# Altium schematic symbol library KNR_Kurs.SchLib: 163 symbols (part 1 of 2)
Pins are listed as number, name and electrical type; pins without a type are passive.

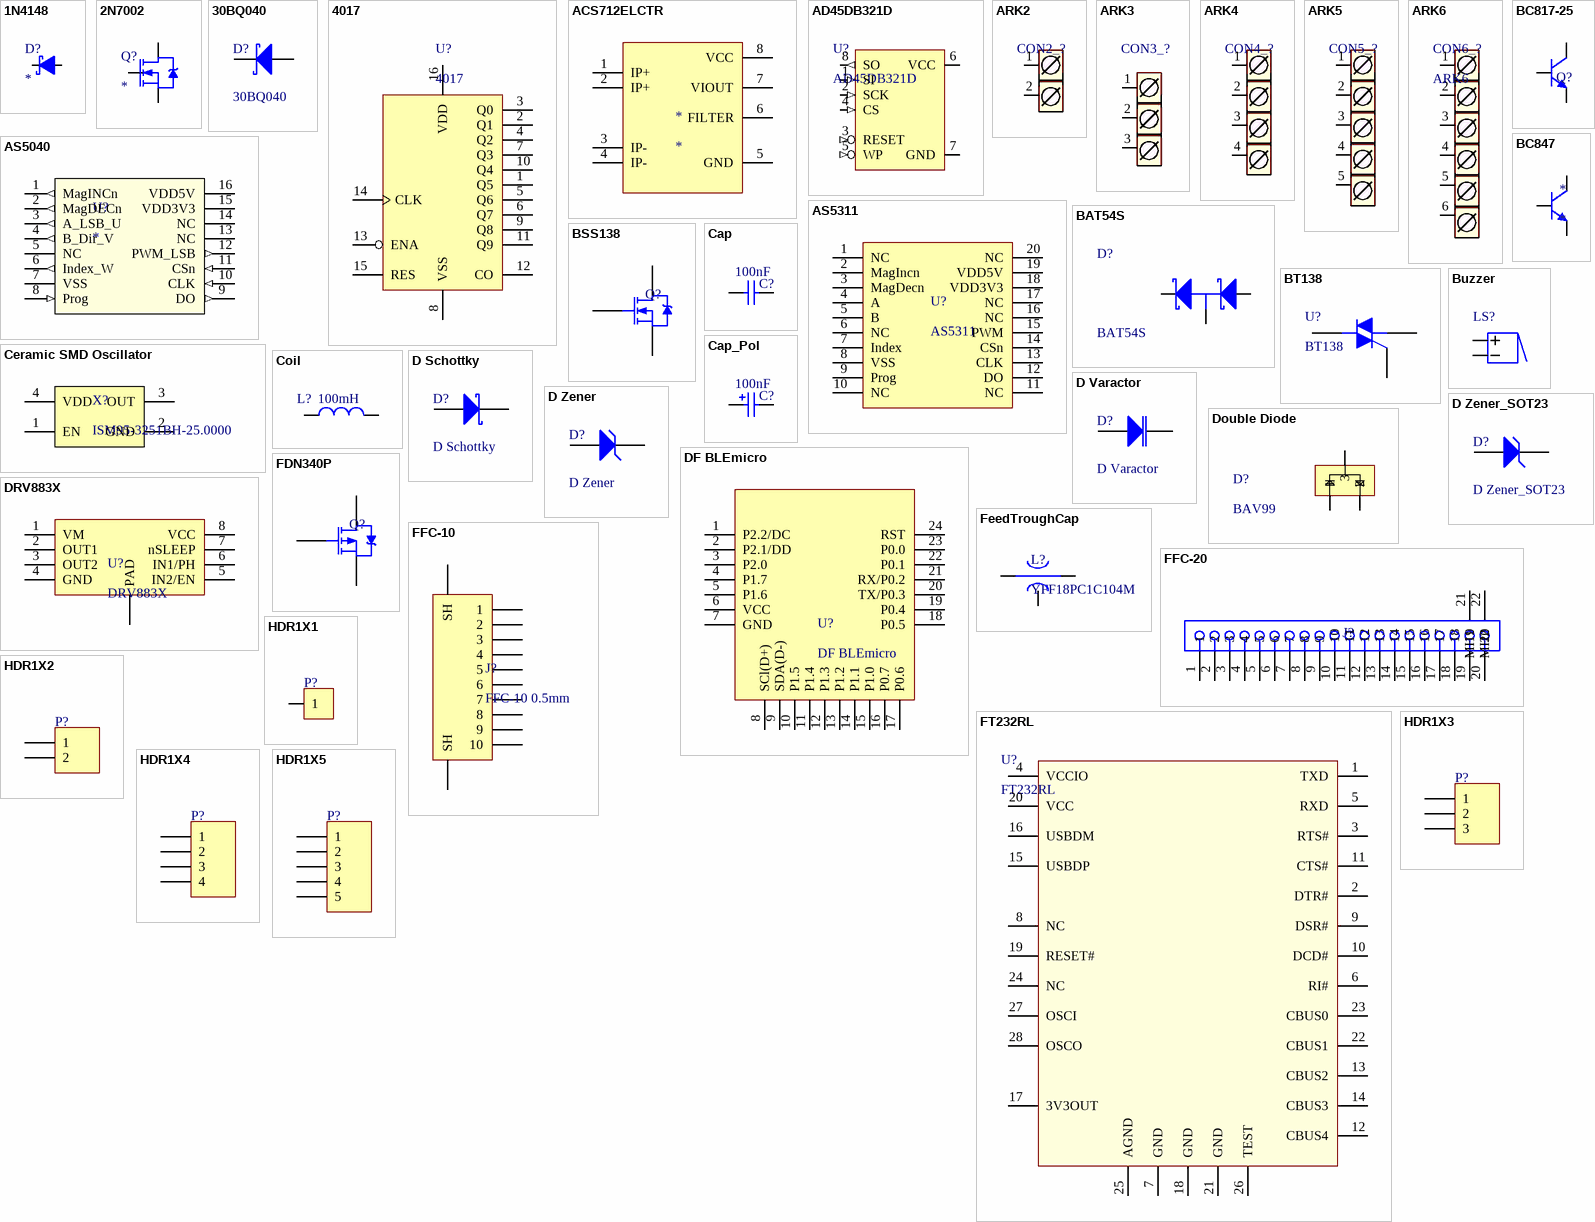
[diagram p0: symbols 1N4148 to HDR1X5]

## 1N4148
designator D?
footprint minimelf
pins: 1 A, 2 K

## 2N7002
designator Q?
footprint SOT23
pins: 1 G, 2 S, 3 D

## 30BQ040
designator D?
Schottky Rectifier; Published: 8-Jun-2000; LatestRevisionDate: 17-Jul-2002; LatestRevisionNote: Re-released for DXP Platform.; DatasheetDocument: PD-2.439; PackageReference: SMC; Publisher: Altium Limited; Code_JEDEC: DO-214-AB; ComponentLink1Description: Manufacturer Link; ComponentLink1URL: http://www.irf.com/; ComponentLink2Description: Datasheet; ComponentLink2URL: http://www.irf.com/product-info/datasheets/data/30bq040.pdf
footprint SMC (DO-214-AB/SMC; 2 C-Bend Leads; Body 7.9 x 5.9 mm, inc. leads (LxW))
pins: 1 A, 2 K

## 4017
designator U?
5-stage Johnson counter
footprint DIP16
pins: 1 Q5, 2 Q1, 3 Q0, 4 Q2, 5 Q6, 6 Q7, 7 Q3, 8 VSS, 9 Q8, 10 Q4, 11 Q9, 12 CO, 13 ENA, 14 CLK, 15 RES, 16 VDD

## ACS712ELCTR
designator *
footprint SOIC127P600X175-8N (SOIC, 8-Leads, Body 4,90x3,90mm, Pitch 1,27mm, IPC Medium Density)
pins: 1 IP+, 2 IP+, 3 IP-, 4 IP-, 5 GND, 6 FILTER, 7 VIOUT, 8 VCC

## AD45DB321D
designator U?
footprint SOIC8S2
pins: 1 SI (in), 2 SCK (in), 3 RESET (in), 4 CS (in), 5 WP (in), 6 VCC (power), 7 GND (power), 8 SO (out)

## ARK2
designator CON2_?  (value not drawn)
Złącze śrubowe 2 piny
footprint ARK2
pins: 1, 2

## ARK3
designator CON3_?  (value not drawn)
Złącze śrubowe 3 piny
footprint ARK3
pins: 1, 2, 3

## ARK4
designator CON4_?  (value not drawn)
Złącze śrubowe 4 piny
footprint ARK4
pins: 1, 2, 3, 4

## ARK5
designator CON5_?  (value not drawn)
Złącze śrubowe 5 pinów
footprint ARK5
pins: 1, 2, 3, 4, 5

## ARK6
designator CON6_?
Złącze śrubowe 6 pinów
footprint ARK6
pins: 1, 2, 3, 4, 5, 6

## AS5040
designator U?
footprint SSOP16 (SSOP; 16 Leads; Body Width 5.3 mm; Pitch 0.65 mm)
pins: 1 MagINCn (out), 2 MagDECn (out), 3 A_LSB_U (out), 4 B_Dir_V (out), 5 NC, 6 Index_W (out), 7 VSS (power), 8 Prog (in), 9 DO (out), 10 CLK (in), 11 CSn (in), 12 PWM_LSB (out), 13 NC, 14 NC, 15 VDD3V3 (power), 16 VDD5V (power)

## AS5311
designator U?
footprint TSOP20 (TSOP, 12 Leads, Body XxXmm, Pitch 0,65mm, Thermal Pad 0,00x0,00mm, IPC Medium Density)
pins: 1 NC, 2 MagIncn, 3 MagDecn, 4 A, 5 B, 6 NC, 7 Index, 8 VSS, 9 Prog, 10 NC, 11 NC, 12 DO, 13 CLK, 14 CSn, 15 PWM, 16 NC, 17 NC, 18 VDD3V3, 19 VDD5V, 20 NC

## BAT54S
designator D?
Schottky Barrier Double Diode; Published: 17-Sep-2003; LatestRevisionDate: 12-Dec-2006; LatestRevisionNote: IPC-7351 Footprint Added.; DatasheetVersion: 4-Mar-2002; PackageVersion: May-1999; PackageReference: SOT23; Publisher: Altium Limited; PackageDescription: 3-Pin SOT-23 Package 0.95 mm Pitch, 2.3 mm Lead Span; ComponentLink1Description: Manufacturer Link; ComponentLink1URL: http://www.semiconductors.philips.com/; ComponentLink2Description: Datasheet; ComponentLink2URL: http://www.semiconductors.philips.com/acrobat/datasheets/BAT54_SERIES_4.pdf
footprint SOT23_N
pins: 1 A, 2 K, 3 C

## BC817-25
designator Q?  (value not drawn)
NPN General-purpose Transistor; Published: 17-Sep-2003; LatestRevisionDate: 12-Dec-2006; LatestRevisionNote: IPC-7351 Footprint Added.; DatasheetVersion: Jun-1999; PackageVersion: May-1999; PackageReference: SOT23; Publisher: Altium Limited; PackageDescription: 3-Pin SOT-23 Package 0.95 mm Pitch, 2.3 mm Lead Span; ComponentLink1Description: Manufacturer Link; ComponentLink1URL: http://www.semiconductors.philips.com/; ComponentLink2Description: Datasheet; ComponentLink2URL: http://www.semiconductors.philips.com/acrobat/datasheets/BC817_BC817W_BC337_5.pdf
footprint SOT23_N
pins: 1 B, 2 E, 3 C

## BC847
designator *
footprint DFN65P100X40-3N (DFN, 3-Leads, Body 0,60x1,00mm, Pitch 0,65mm, IPC Medium Density)
pins: 1 B, 2 E, 3 C

## BSS138
designator Q?
footprint SuperSot-3
pins: 1 G, 2 S, 3 D

## BT138
designator U?
BT138, 600V Triac
footprint TO-220AB (TO, Thru-Hole, Vertical, Heatsink Mounted; 3 In-Line Leads; Pitch 2.54 mm)
pins: 1 M1, 2 M2, 3 G

## Buzzer
designator LS?  (value not drawn)
Magnetic Transducer Buzzer; Published: 24-Mar-1999; LatestRevisionDate: 17-Dec-2003; LatestRevisionNote: Schematic revised, PCB Footprint replaced.; DatasheetVersion: 17-Dec-2003; PackageReference: ABSM-1574; Publisher: Altium Limited; ComponentLink1Description: Manufacturer Link; ComponentLink1URL: http://www.megastar.com/linecard/buzzmode/index.php
footprint HCM1212X (Buzzer)
pins: 1, 2

## Cap
designator C?  value 100nF
Ceramic capacitor; Unit Price1: *; Unit Price2: *
footprint CAP_THT_5.0 (Kondensator ceramiczny z rozstawem wyprowadzeń 5mm)
footprint CAPC0402
footprint CAPC0603M (Chip Capacitor, 2-Leads, Body 1,60x0,80mm, IPC High Density)
footprint CAPC0805 (Chip Capacitor, 2-Leads, Body 2,00x1,25mm, IPC High Density)
footprint CAPC1206 (Chip Capacitor, 2-Leads, Body 3,20x1,60mm, IPC Medium Density)
footprint CAPC1210 (Chip Capacitor, 2-Leads, Body 3,20x2,50mm, IPC High Density)
pins: 1, 2

## Cap_Pol
designator C?, comment 100nF
Polar capacitor; Value: 100nF
footprint Con_SMD_4x5 (SMD electrolytic capacitor)
footprint Con_SMD_5x5.5 (SMD electrolytic capacitor)
footprint Con_SMD_6.3x5.5 (SMD electrolytical capacitor)
footprint Con_SMD_8x10_5 (Base 8,2mm height 10mm, 220uF, 35V AD6)
footprint Cap_THT_5x11
footprint Cap_THT_6x11
footprint Cap_THT_10x20
footprint B_CAP
pins: 1, 2
2 alternate drawings of the same symbol

## Ceramic SMD Oscillator
designator X?, comment ISM95-3251BH-25.0000
Generator: ceramiczny; 25MHz; SMD; 3,3V; ±50ppm; -40÷85°C
footprint ISM95 (Generator: ceramiczny; 25MHz; SMD; 3,3V; ±50ppm; -40÷85°C)
pins: 1 EN, 2 GND, 3 OUT, 4 VDD

## Coil
designator L?, comment 100mH
Coil for ADC filtering; Value: 100mH
footprint THT_AXIAL (General THT AXIAL element)
footprint 0603_IND
footprint 0805_IND ((2012 metric))
footprint 1206_IND (3216(metric))
pins: 1, 2

## D Schottky
designator D?
Schottky Diode; Published: 8-Jun-2000; LatestRevisionDate: 17-Jul-2002; LatestRevisionNote: Re-released for DXP Platform.; PackageReference: SMB; Publisher: Altium Limited; PackageDescription: DO-214-AA/SMB; 2 C-Bend Leads; Body 5.3 x 3.6 mm, inc. leads (LxW); Code_JEDEC: DO-214-AA
footprint SMB (DO-214-AA/SMB; 2 C-Bend Leads; Body 5.3 x 3.6 mm, inc. leads (LxW))
signal-integrity model D Schottky
footprint SMA (Molded Diode, 2-Leads, Body 4,3x2,7mm, IPC Medium Density)
footprint SOD323F (SODFL, 2-Leads, Body 1,25x2,50mm, IPC High Density)
pins: 1 A, 2 K

## D Varactor
designator D?
Variable Capacitance Diode; Note: Pin 2 is not connected and not drawn.; Published: 8-Jun-2000; LatestRevisionDate: 29-May-2009; LatestRevisionNote: IPC-7351 Footprint Added.; DatasheetVersion: Jan-1998; PackageVersion: 1996; PackageReference: SOT23A; Publisher: Altium Limited; PackageDescription: 3-Pin SOT-23 Package 0.95 mm Pitch, 2.3 mm Lead Span - Reverse Pinning; ComponentLink1Description: Manufacturer Link; ComponentLink1URL: http://www.zetex.com/
footprint SOT23_N (SOT23, 3-Leads, Body 2.9x1.3mm, Pitch 0.95mm, Lead Span 2.3mm - Reverse Pinning, IPC Medium Density)
pins: 1 K, 3 A

## D Zener
designator D?
Zener Diode; Published: 8-Jun-2000; LatestRevisionDate: 17-Jul-2002; LatestRevisionNote: Re-released for DXP Platform.; PackageReference: DIODE-0.7; Publisher: Altium Limited; PackageDescription: Diode, Thru-Hole; 2 Leads; 0.7 in Pin Spacing
footprint SMB (DO-214-AA/SMB; 2 C-Bend Leads; Body 5.3 x 3.6 mm, inc. leads (LxW))
pins: 1 A, 2 K

## D Zener_SOT23
designator D?
Zener Diode, SOT23; Published: 8-Jun-2000; LatestRevisionDate: 17-Jul-2002; LatestRevisionNote: Re-released for DXP Platform.; PackageReference: DIODE-0.7; Publisher: Altium Limited; PackageDescription: Diode, Thru-Hole; 2 Leads; 0.7 in Pin Spacing
signal-integrity model D Zener
footprint SOT23
pins: 1 A, 3 K

## DF BLEmicro
designator U?
footprint DF BLE 4.0
pins: 1 P2.2/DC, 2 P2.1/DD, 3 P2.0, 4 P1.7, 5 P1.6, 6 VCC, 7 GND, 8 SCl(D+), 9 SDA(D-), 10 P1.5, 11 P1.4, 12 P1.3, 13 P1.2, 14 P1.1, 15 P1.0, 16 P0.7, 17 P0.6, 18 P0.5, 19 P0.4, 20 TX/P0.3, 21 RX/P0.2, 22 P0.1, 23 P0.0, 24 RST

## Double Diode
designator D?, comment BAV99
Two diodes in series
footprint SOT95P230X110-3N (SOT23, 3-Leads, Body 2,90x2,30mm, Pitch 0,95mm, IPC Medium Density)
pins: 1, 2, 3

## DRV883X
designator U?
footprint SON50P200X80_HS-9L (SON, 8-Leads, Body 2,00x2,00mm, Pitch 0,50mm, Thermal Pad 1,60x0,69mm, IPC High Density)
pins: 1 VM, 2 OUT1, 3 OUT2, 4 GND, 5 IN2/EN, 6 IN1/PH, 7 nSLEEP, 8 VCC, 9 PAD

## FDN340P
designator Q?  (value not drawn)
footprint SuperSot-3
pins: 1 G, 2 S, 3 D

## FeedTroughCap
designator L?, comment YFF18PC1C104M
footprint FIL0603
pins: 1 IN/OUT, 2 GND, 3 IN/OUT

## FFC-10
designator J?, comment FFC-10 0.5mm
footprint FFC-10 0.5mm (FFC connector, r 0.5mm)
footprint FPC Molex 10Ckt
pins: 1, 2, 3, 4, 5, 6, 7, 8, 9, 10, 11 SH, 12 SH

## FFC-20
designator J?, comment FFC20  (value not drawn)
footprint FFC-20 0.5MM
pins: 1, 2, 3, 4, 5, 6, 7, 8, 9, 10, 11, 12, 13, 14, 15, 16, 17, 18, 19, 20, 21 MH1, 22 MH2

## FT232RL
designator U?
9.62500000000
footprint SSOP-28 (SOP, 28-Leads, Body 10,5x5,6mm (max), Pitch 0,65mm)
pins: 1 TXD, 2 DTR#, 3 RTS#, 4 VCCIO, 5 RXD, 6 RI#, 7 GND, 8 NC, 9 DSR#, 10 DCD#, 11 CTS#, 12 CBUS4, 13 CBUS2, 14 CBUS3, 15 USBDP, 16 USBDM, 17 3V3OUT, 18 GND, 19 RESET#, 20 VCC, 21 GND, 22 CBUS1, 23 CBUS0, 24 NC, 25 AGND, 26 TEST, 27 OSCI, 28 OSCO

## HDR1X1
designator P?  (value not drawn)
Header, 1-Pin
footprint HDR1X1 (Header, 1-Pin)
pins: 1

## HDR1X2
designator P?  (value not drawn)
Header, 2-Pin; LatestRevisionDate: 17-Jul-2002; LatestRevisionNote: Re-released for DXP Platform.; Publisher: Altium Limited
footprint HDR1X2 (Connector; Header; 2 Position)
pins: 1, 2

## HDR1X3
designator P?  (value not drawn)
Header, 3-Pin; LatestRevisionDate: 17-Jul-2002; LatestRevisionNote: Re-released for DXP Platform.; Publisher: Altium Limited
footprint HDR1X3 (Connector; Header; 3 Position)
pins: 1, 2, 3

## HDR1X4
designator P?  (value not drawn)
Header, 4-Pin; LatestRevisionDate: 17-Jul-2002; LatestRevisionNote: Re-released for DXP Platform.; Publisher: Altium Limited
footprint HDR1X4 (Connector; Header; 4 Position)
pins: 1, 2, 3, 4

## HDR1X5
designator P?  (value not drawn)
Header, 5-Pin; LatestRevisionDate: 17-Jul-2002; LatestRevisionNote: Re-released for DXP Platform.; Publisher: Altium Limited
footprint HDR1X5 (Connector; Header; 5 Position)
pins: 1, 2, 3, 4, 5

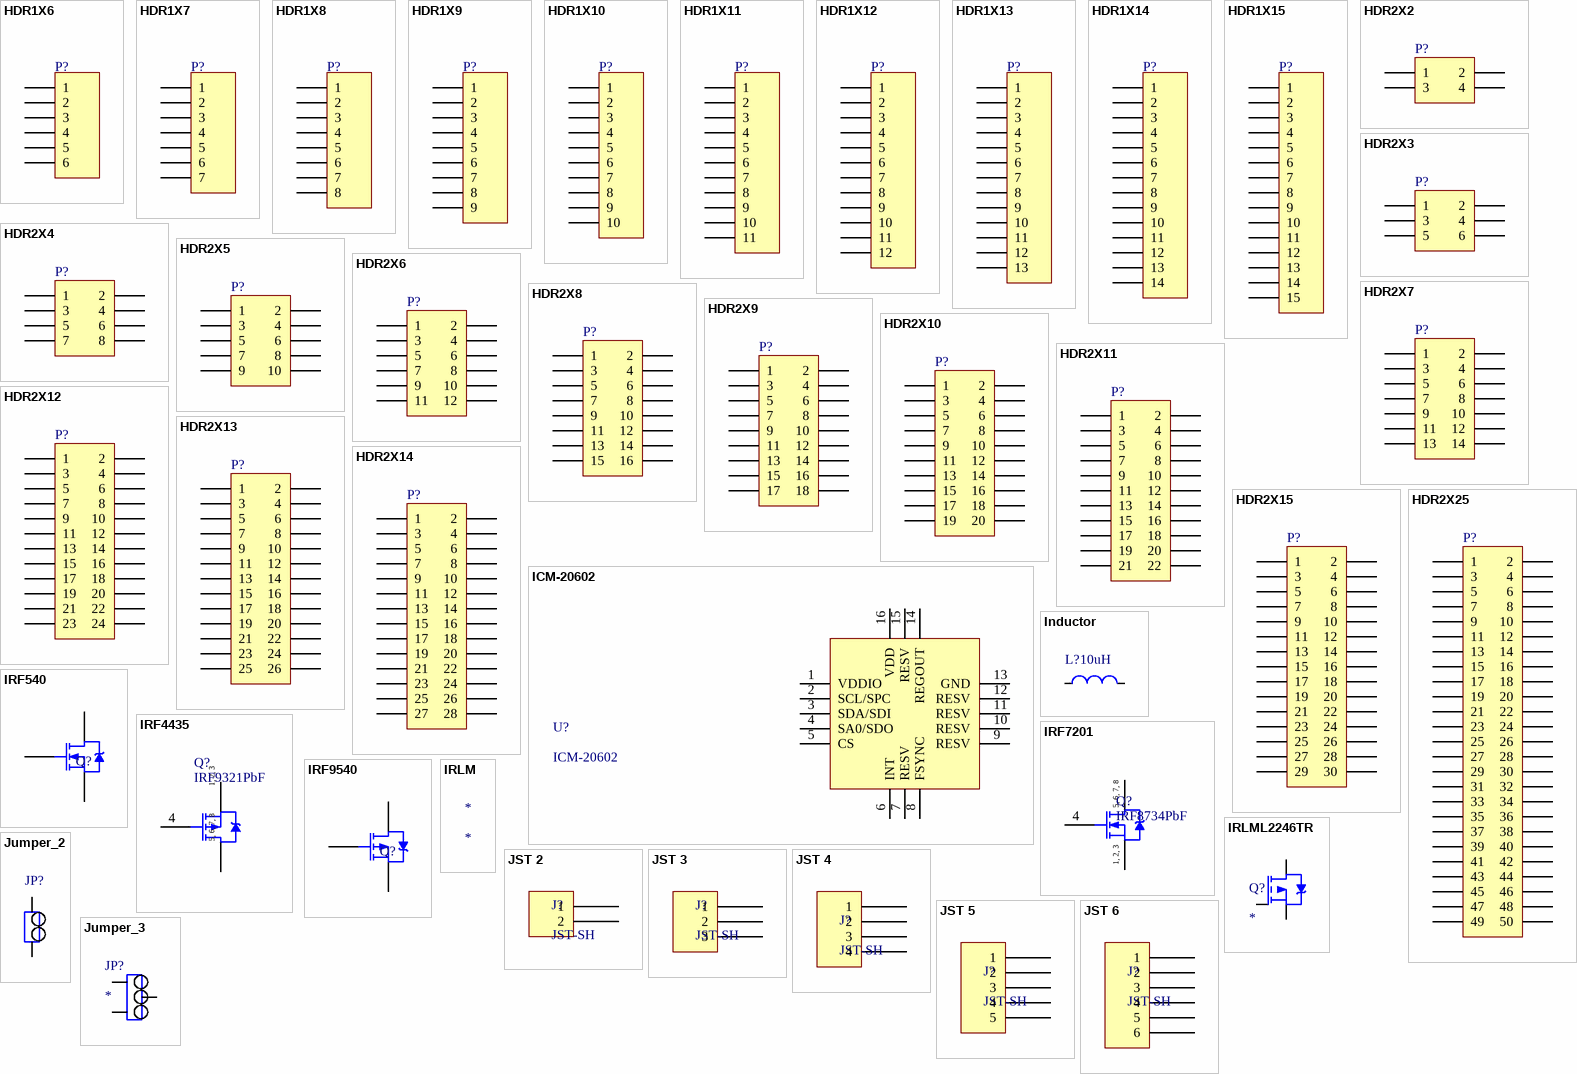
[diagram p1: symbols HDR1X6 to Jumper_3]

## HDR1X6
designator P?  (value not drawn)
Header, 6-Pin; LatestRevisionDate: 17-Jul-2002; LatestRevisionNote: Re-released for DXP Platform.; Publisher: Altium Limited
footprint HDR1X6 (Connector; Header; 6 Position)
pins: 1, 2, 3, 4, 5, 6

## HDR1X7
designator P?  (value not drawn)
Header, 7-Pin; LatestRevisionDate: 17-Jul-2002; LatestRevisionNote: Re-released for DXP Platform.; Publisher: Altium Limited
footprint HDR1X7 (Connector; Header; 7 Position)
pins: 1, 2, 3, 4, 5, 6, 7

## HDR1X8
designator P?  (value not drawn)
Header, 8-Pin; LatestRevisionDate: 17-Jul-2002; LatestRevisionNote: Re-released for DXP Platform.; Publisher: Altium Limited
footprint HDR1X8 (Connector; Header; 8 Position)
pins: 1, 2, 3, 4, 5, 6, 7, 8

## HDR1X9
designator P?  (value not drawn)
Header, 9-Pin; LatestRevisionDate: 17-Jul-2002; LatestRevisionNote: Re-released for DXP Platform.; Publisher: Altium Limited
footprint HDR1X9 (Connector; Header; 9 Position)
pins: 1, 2, 3, 4, 5, 6, 7, 8, 9

## HDR1X10
designator P?  (value not drawn)
Header, 10-Pin; LatestRevisionDate: 17-Jul-2002; LatestRevisionNote: Re-released for DXP Platform.; Publisher: Altium Limited
footprint HDR1X10 (Connector; Header; 10 Position)
pins: 1, 2, 3, 4, 5, 6, 7, 8, 9, 10

## HDR1X11
designator P?  (value not drawn)
Header, 11-Pin; LatestRevisionDate: 17-Jul-2002; LatestRevisionNote: Re-released for DXP Platform.; Publisher: Altium Limited
footprint HDR1X11 (Connector; Header; 11 Position)
pins: 1, 2, 3, 4, 5, 6, 7, 8, 9, 10, 11

## HDR1X12
designator P?  (value not drawn)
Header, 12-Pin
footprint HDR1X12 (Connector; Header; 12 Position)
pins: 1, 2, 3, 4, 5, 6, 7, 8, 9, 10, 11, 12

## HDR1X13
designator P?  (value not drawn)
Header, 13-Pin; LatestRevisionDate: 17-Jul-2002; LatestRevisionNote: Re-released for DXP Platform.; Publisher: Altium Limited
footprint HDR1X13 (Connector; Header; 13 Position)
pins: 1, 2, 3, 4, 5, 6, 7, 8, 9, 10, 11, 12, 13

## HDR1X14
designator P?  (value not drawn)
Header, 14-Pin; LatestRevisionDate: 17-Jul-2002; LatestRevisionNote: Re-released for DXP Platform.; Publisher: Altium Limited
footprint HDR1X14 (Connector; Header; 14 Position)
pins: 1, 2, 3, 4, 5, 6, 7, 8, 9, 10, 11, 12, 13, 14

## HDR1X15
designator P?  (value not drawn)
Header, 15-Pin; LatestRevisionDate: 17-Jul-2002; LatestRevisionNote: Re-released for DXP Platform.; Publisher: Altium Limited
footprint HDR1X15 (Connector; Header; 15 Position)
pins: 1, 2, 3, 4, 5, 6, 7, 8, 9, 10, 11, 12, 13, 14, 15

## HDR2X2
designator P?  (value not drawn)
Header, 2-Pin, Dual row
footprint HDR2X2 (Connector; Header; 2X2 Position)
footprint HDR2X2_SMD
pins: 1, 2, 3, 4

## HDR2X3
designator P?  (value not drawn)
Header, 3-Pin, Dual row; LatestRevisionDate: 17-Jul-2002; LatestRevisionNote: Re-released for DXP Platform.; Publisher: Altium Limited
footprint HDR2X3 (Connector; Header; 3x2 Position)
footprint HDR2X3_SMD
pins: 1, 2, 3, 4, 5, 6

## HDR2X4
designator P?  (value not drawn)
Header, 4-Pin, Dual Row
footprint HDR2X4 (Connector; Header; 2X4 Position)
footprint HDR2X4_SMD
pins: 1, 2, 3, 4, 5, 6, 7, 8

## HDR2X5
designator P?  (value not drawn)
Header, 5-Pin, Dual row; LatestRevisionDate: 17-Jul-2002; LatestRevisionNote: Re-released for DXP Platform.; Publisher: Altium Limited
footprint HDR2X5 (Connector; Header; 5x2 Position)
footprint HDR2X5_SMD
pins: 1, 2, 3, 4, 5, 6, 7, 8, 9, 10

## HDR2X6
designator P?  (value not drawn)
Header, 6-Pin, Dual row; LatestRevisionDate: 17-Jul-2002; LatestRevisionNote: Re-released for DXP Platform.; Publisher: Altium Limited
footprint HDR2X6 (Connector; Header; 6x2 Position)
footprint HDR2X6_SMD
pins: 1, 2, 3, 4, 5, 6, 7, 8, 9, 10, 11, 12

## HDR2X7
designator P?  (value not drawn)
Header, 7-Pin, Dual row; LatestRevisionDate: 17-Jul-2002; LatestRevisionNote: Re-released for DXP Platform.; Publisher: Altium Limited
footprint HDR2X7 (Connector; Header; 7x2 Position)
footprint HDR2X7_SMD
pins: 1, 2, 3, 4, 5, 6, 7, 8, 9, 10, 11, 12, 13, 14

## HDR2X8
designator P?  (value not drawn)
Header, 8-Pin, Dual row; LatestRevisionDate: 17-Jul-2002; LatestRevisionNote: Re-released for DXP Platform.; Publisher: Altium Limited
footprint HDR2X8 (Connector; Header; 8x2 Position)
footprint HDR2X8_SMD
pins: 1, 2, 3, 4, 5, 6, 7, 8, 9, 10, 11, 12, 13, 14, 15, 16

## HDR2X9
designator P?  (value not drawn)
Header, 9-Pin, Dual row; LatestRevisionDate: 17-Jul-2002; LatestRevisionNote: Re-released for DXP Platform.; Publisher: Altium Limited
footprint HDR2X9 (Connector; Header; 9x2 Position)
footprint HDR2X9_SMD
pins: 1, 2, 3, 4, 5, 6, 7, 8, 9, 10, 11, 12, 13, 14, 15, 16, 17, 18

## HDR2X10
designator P?  (value not drawn)
Header, 10-Pin, Dual row; LatestRevisionDate: 17-Jul-2002; LatestRevisionNote: Re-released for DXP Platform.; Publisher: Altium Limited
footprint HDR2X10 (Connector; Header; 10x2 Position)
footprint HDR2X10_SMD
pins: 1, 2, 3, 4, 5, 6, 7, 8, 9, 10, 11, 12, 13, 14, 15, 16, 17, 18, 19, 20

## HDR2X11
designator P?  (value not drawn)
Header, 11-Pin, Dual row; LatestRevisionDate: 17-Jul-2002; LatestRevisionNote: Re-released for DXP Platform.; Publisher: Altium Limited
footprint HDR2X11 (Connector; Header; 11x2 Position)
footprint HDR2X11_SMD
pins: 1, 2, 3, 4, 5, 6, 7, 8, 9, 10, 11, 12, 13, 14, 15, 16, 17, 18, 19, 20, 21, 22

## HDR2X12
designator P?  (value not drawn)
Header, 12-Pin, Dual row; LatestRevisionDate: 17-Jul-2002; LatestRevisionNote: Re-released for DXP Platform.; Publisher: Altium Limited
footprint HDR2X12 (Connector; Header; 12x2 Position)
footprint HDR2X12_SMD
pins: 1, 2, 3, 4, 5, 6, 7, 8, 9, 10, 11, 12, 13, 14, 15, 16, 17, 18, 19, 20, 21, 22, 23, 24

## HDR2X13
designator P?  (value not drawn)
Header, 13-Pin, Dual row; LatestRevisionDate: 17-Jul-2002; LatestRevisionNote: Re-released for DXP Platform.; Publisher: Altium Limited
footprint HDR2X13 (Connector; Header; 13x2 Position)
footprint HDR2X13_SMD
pins: 1, 2, 3, 4, 5, 6, 7, 8, 9, 10, 11, 12, 13, 14, 15, 16, 17, 18, 19, 20, 21, 22, 23, 24, 25, 26

## HDR2X14
designator P?  (value not drawn)
Header, 14-Pin, Dual row; LatestRevisionDate: 17-Jul-2002; LatestRevisionNote: Re-released for DXP Platform.; Publisher: Altium Limited
footprint HDR2X14 (Connector; Header; 14x2 Position)
footprint HDR2X14_SMD
pins: 1, 2, 3, 4, 5, 6, 7, 8, 9, 10, 11, 12, 13, 14, 15, 16, 17, 18, 19, 20, 21, 22, 23, 24, 25, 26, 27, 28

## HDR2X15
designator P?  (value not drawn)
Header, 15-Pin, Dual row; LatestRevisionDate: 17-Jul-2002; LatestRevisionNote: Re-released for DXP Platform.; Publisher: Altium Limited
footprint HDR2X15 (Connector; Header; 15x2 Position)
footprint HDR2X15_SMD
pins: 1, 2, 3, 4, 5, 6, 7, 8, 9, 10, 11, 12, 13, 14, 15, 16, 17, 18, 19, 20, 21, 22, 23, 24, 25, 26, 27, 28, 29, 30

## HDR2X25
designator P?  (value not drawn)
Header, 15-Pin, Dual row; LatestRevisionDate: 17-Jul-2002; LatestRevisionNote: Re-released for DXP Platform.; Publisher: Altium Limited
footprint HDR2X25_SMD
footprint HDR2X25 (Connector; Header; 25x2 Position)
pins: 1, 2, 3, 4, 5, 6, 7, 8, 9, 10, 11, 12, 13, 14, 15, 16, 17, 18, 19, 20, 21, 22, 23, 24, 25, 26, 27, 28, 29, 30, 31, 32, 33, 34, 35, 36, 37, 38, 39, 40, 41, 42, 43, 44, 45, 46, 47, 48, 49, 50

## ICM-20602
designator U?
InvenSense ICM-20602-DOF
footprint LGA-16 3x3
pins: 1 VDDIO, 2 SCL/SPC, 3 SDA/SDI, 4 SA0/SDO, 5 CS, 6 INT, 7 RESV, 8 FSYNC, 9 RESV, 10 RESV, 11 RESV, 12 RESV, 13 GND, 14 REGOUT, 15 RESV, 16 VDD

## Inductor
designator L?, comment 10uH
Code_IEC: 1005; Published: 8-Jun-2000; LatestRevisionDate: 29-May-2009; LatestRevisionNote: IPC-7351 Footprint Added.; PackageReference: 0402-A; Publisher: Altium Limited; PackageDescription: Chip Inductor; Code_JEITA: 0402; Value: 10uH
footprint DO5040
footprint 0603_IND
footprint 0805_IND ((2012 metric))
footprint 1206_IND (3216(metric))
footprint DE_0703
footprint DER_0705 (X - height)
pins: 1, 2

## IRF540
designator Q?
HEXFET N-Channel Power MOSFET; Note: Pin 2 is electrically connected to pin 4.; Published: 8-Jun-2000; LatestRevisionDate: 17-Jul-2002; LatestRevisionNote: Re-released for DXP Platform.; DatasheetVersion: PD-9.373H; PackageVersion: Feb-1997; PackageReference: TO-220AB; Publisher: Altium Limited; PackageDescription: TO, Thru-Hole, Vertical, Heatsink Mounted; 3 In-Line Leads; Pitch 2.54 mm; ComponentLink1Description: Manufacturer Link; ComponentLink1URL: http://www.irf.com/
footprint TO-220AB (TO, Thru-Hole, Vertical, Heatsink Mounted; 3 In-Line Leads; Pitch 2.54 mm)
pins: 1 G, 2 D, 3 S

## IRF4435
designator Q?, comment IRF9321PbF
HEXFET Power MOSFET; Published: 17-Sep-2003; LatestRevisionDate: 13-Apr-2006; LatestRevisionNote: IPC-7351 Footprint Added.; DatasheetVersion: 12-Jun-2001; PackageVersion: Feb-2001; PackageReference: SO-8; Publisher: Altium Limited; PackageDescription: 8-Pin Plastic Small Outline Integrated Circuit 1.27 mm Pitch; Code_JEDEC: MS-012-AA; Code_IPC: SOIC127P600-8; ComponentLink1Description: Manufacturer Link; ComponentLink1URL: http://www.irf.com/; ComponentLink2Description: Datasheet; ComponentLink2URL: http://www.irf.com/product-info/datasheets/data/IRF4435.pdf
footprint SO-8_N
pins: 1 S, 2 S, 3 S, 4 G, 5 D, 6 D, 7 D, 8 D
text: 1, 2, 3; 5, 6, 7, 8

## IRF7201
designator Q?, comment IRF8734PbF
HEXFET Power MOSFET; Published: 8-Jun-2000; LatestRevisionDate: 13-Apr-2006; LatestRevisionNote: IPC-7351 Footprint Added.; DatasheetVersion: Sep-1998; PackageVersion: Feb-2001; PackageReference: SO-8; Publisher: Altium Limited; PackageDescription: 8-Pin Plastic Small Outline Integrated Circuit 1.27 mm Pitch; Code_JEDEC: MS-012-AA; Code_IPC: SOIC127P600-8; ComponentLink1Description: Manufacturer Link; ComponentLink1URL: http://www.irf.com/; ComponentLink2Description: Datasheet; ComponentLink2URL: http://www.irf.com/product-info/datasheets/data/irf7201.pdf
footprint SO-8_N
pins: 1 S, 2 S, 3 S, 4 G, 5 D, 6 D, 7 D, 8 D
text: 5, 6, 7, 8; 1, 2, 3

## IRF9540
designator Q?
HEXFET P-Channel Power MOSFET; Note: Pin 2 is electrically connected to pin 4.; Published: 8-Jun-2000; LatestRevisionDate: 17-Jul-2002; LatestRevisionNote: Re-released for DXP Platform.; DatasheetVersion: PD-9.421C; PackageVersion: Feb-1997; PackageReference: TO-220AB; Publisher: Altium Limited; PackageDescription: TO, Thru-Hole, Vertical, Heatsink Mounted; 3 In-Line Leads; Pitch 2.54 mm; ComponentLink1Description: Manufacturer Link; ComponentLink1URL: http://www.irf.com/; ComponentLink2Description: Datasheet; ComponentLink2URL: http://www.irf.com/product-info/datasheets/data/irf9540.pdf
footprint TO-220AB (TO, Thru-Hole, Vertical, Heatsink Mounted; 3 In-Line Leads; Pitch 2.54 mm)
pins: 1 G, 2 D, 3 S

## IRLM
designator *
footprint IRLML6344TRPBF (N-MOSFET SOT23 Vds - 30V. Id - 5A. Moc - 1,3W. Rds - 0,029 Ohm (dla Vgs=4,5V).)

## IRLML2246TR
designator Q?
footprint SOT23
pins: 1 G, 2 S, 3 D

## JST 2
designator J?, comment JST-SH
JST-SH 1mm pitch
footprint JST-SH2 (2-Pin JST-SH SMD)
pins: 1, 2

## JST 3
designator J?, comment JST-SH
JST-SH 1mm pitch
footprint JST-SH3 (3-Pin JST-SH SMD)
pins: 1, 2, 3

## JST 4
designator J?, comment JST-SH
JST-SH 1mm pitch
footprint JST-SH4 (4-Pin JST-SH SMD)
pins: 1, 2, 3, 4

## JST 5
designator J?, comment JST-SH
JST-SH 1mm pitch
footprint JST-SH5 (5-Pin JST-SH SMD)
pins: 1, 2, 3, 4, 5

## JST 6
designator J?, comment JST-SH
JST-SH 1mm pitch
footprint JST-SH6 (6-Pin JST-SH SMD)
pins: 1, 2, 3, 4, 5, 6

## Jumper_2
designator JP?, comment Jumper  (value not drawn)
Jumper, 2-Pin
footprint HDR1X2 - JP (Connector; Header; 2 Position, Jumper)
pins: 1, 2

## Jumper_3
designator JP?
Jumper, 3-Pin
footprint HDR1X3 - JP (Connector; Header; 3 Position, Jumper)
pins: 1, 2, 3

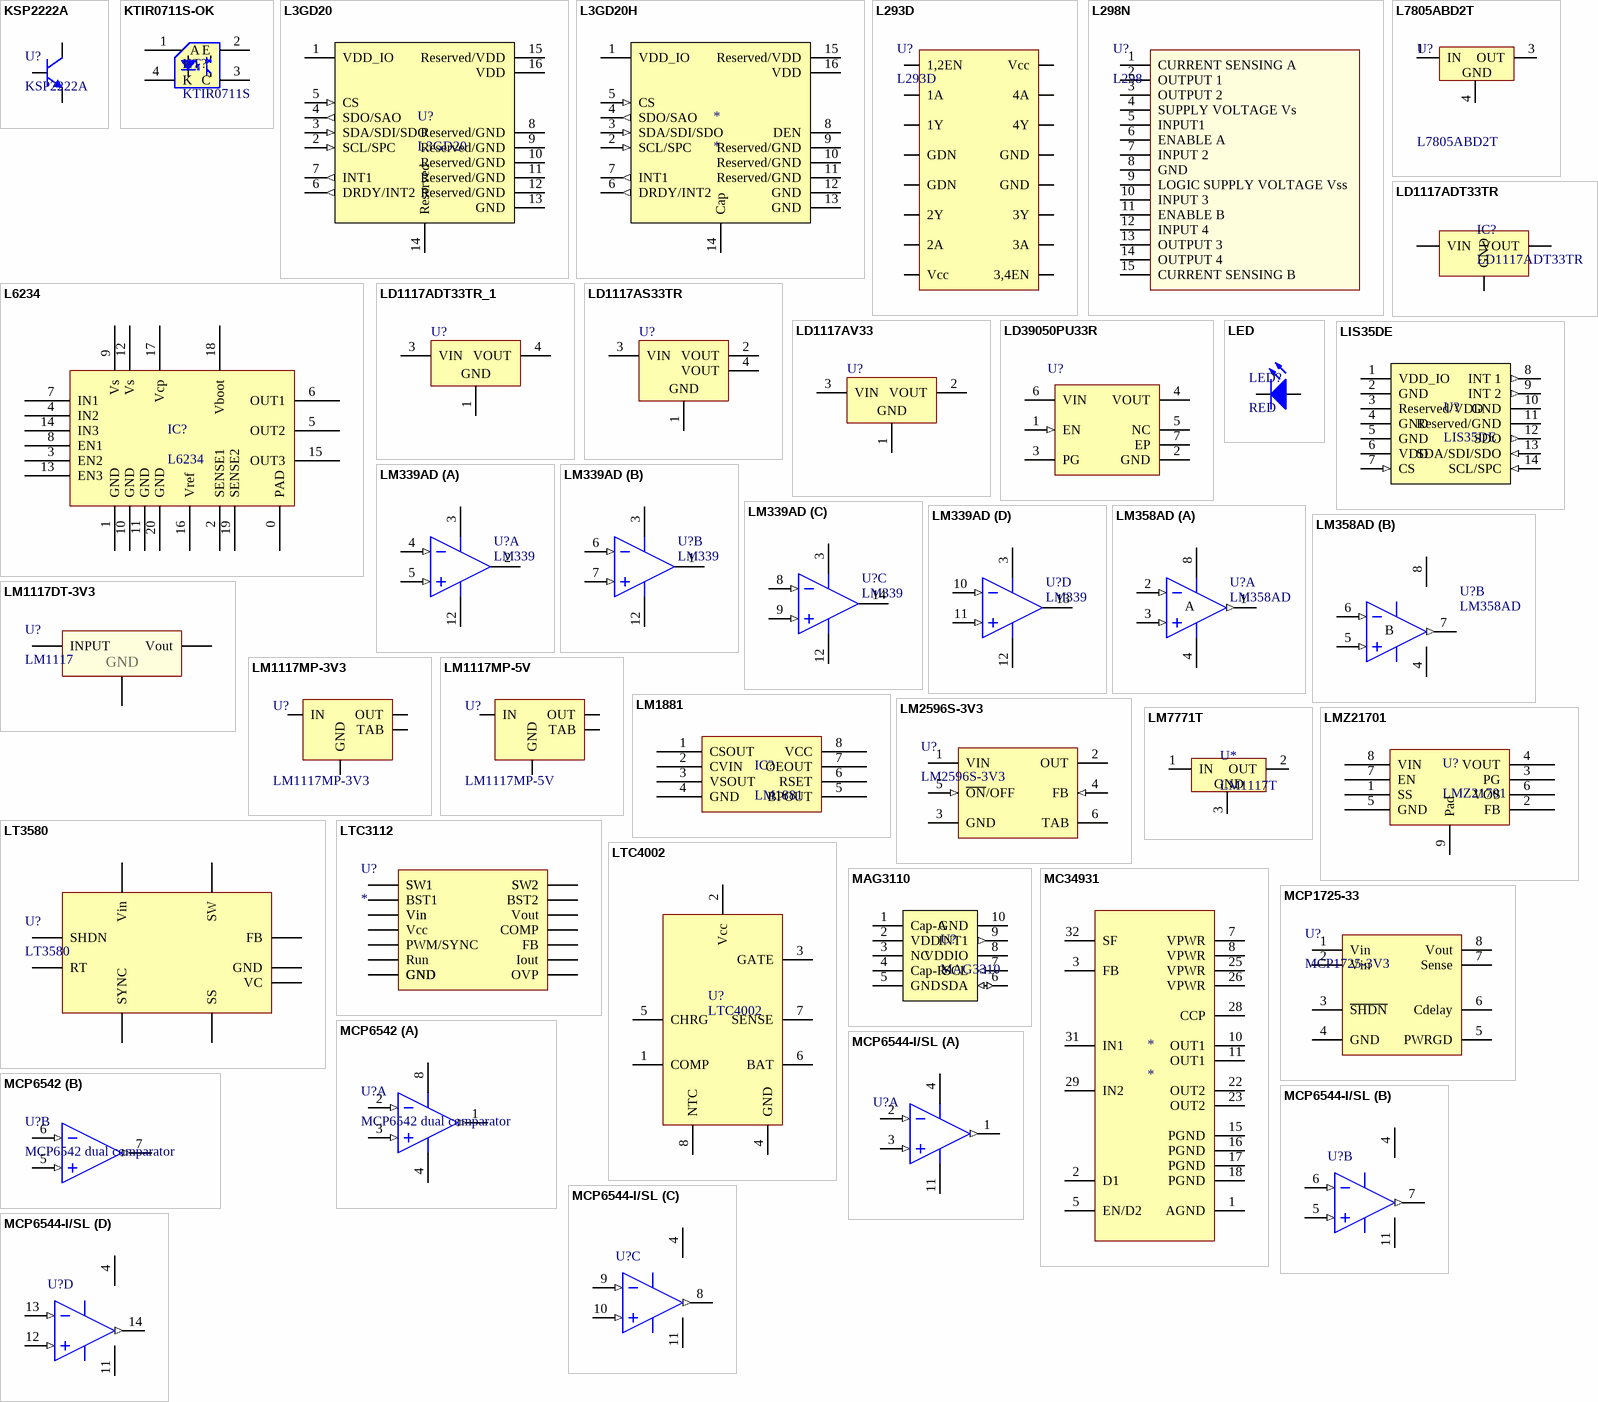
[diagram p2: symbols KSP2222A to MCP6544-I/SL]

## KSP2222A
designator U?
NPN General Purpose Amplifier
footprint TO-92
pins: 1 E, 2 B, 3 C

## KTIR0711S-OK
designator KT?, comment KTIR0711S
footprint KTIR0711S-OK
pins: 1 A, 2 E, 3 C, 4 K

## L3GD20
designator U?
footprint LGA16
pins: 1 VDD_IO, 2 SCL/SPC (in), 3 SDA/SDI/SDO (in), 4 SDO/SAO (out), 5 CS (in), 6 DRDY/INT2 (out), 7 INT1 (out), 8 Reserved/GND, 9 Reserved/GND, 10 Reserved/GND, 11 Reserved/GND, 12 Reserved/GND, 13 GND, 14 Reserved, 15 Reserved/VDD, 16 VDD

## L3GD20H
designator *
footprint LGA16-3x3x1.0
pins: 1 VDD_IO, 2 SCL/SPC (in), 3 SDA/SDI/SDO (in), 4 SDO/SAO (out), 5 CS (in), 6 DRDY/INT2 (out), 7 INT1 (out), 8 DEN, 9 Reserved/GND, 10 Reserved/GND, 11 Reserved/GND, 12 GND, 13 GND, 14 Cap, 15 Reserved/VDD, 16 VDD

## L293D
designator U?
Push-Pull Four Channel Driver With Diode
footprint DIP16
pins: 1 1,2EN, 2 1A, 3 1Y, 4 GDN, 5 GDN, 6 2Y, 7 2A, 8 Vcc, 9 3,4EN, 10 3A, 11 3Y, 12 GND, 13 GND, 14 4Y, 15 4A, 16 Vcc

## L298N
designator U?, comment L298
DUAL FULL-BRIDGE DRIVER
footprint Multiwatt15 (Miltiwatt15, 15-leads package)
pins: 1 CURRENT SENSING A, 2 OUTPUT 1, 3 OUTPUT 2, 4 SUPPLY VOLTAGE Vs, 5 INPUT1, 6 ENABLE A, 7 INPUT 2, 8 GND, 9 LOGIC SUPPLY VOLTAGE Vss, 10 INPUT 3, 11 ENABLE B, 12 INPUT 4, 13 OUTPUT 3, 14 OUTPUT 4, 15 CURRENT SENSING B

## L6234
designator IC?
ST L6234  Three phase motor driver
footprint PowerSO20
pins: 0 PAD, 1 GND, 2 SENSE1, 3 EN2, 4 IN2, 5 OUT2, 6 OUT1, 7 IN1, 8 EN1, 9 Vs, 10 GND, 11 GND, 12 Vs, 13 EN3, 14 IN3, 15 OUT3, 16 Vref, 17 Vcp, 18 Vboot, 19 SENSE2, 20 GND

## L7805ABD2T
designator U?
Precision 1A Regulator; Published: 24-Aug-2001; LatestRevisionDate: 17-Jul-2002; LatestRevisionNote: Re-released for DXP Platform.; DatasheetVersion: Nov-1999; PackageReference: TO-263; Publisher: Altium Limited; PackageDescription: D2-PAK/TO-263-AB; 3 Leads (1 Cropped); Body 15.9 (inc. leads) x 10.4 mm (LxW max); ComponentLink1Description: Manufacturer Link; ComponentLink1URL: http://www.st.com/; ComponentLink2Description: Datasheet; ComponentLink2URL: http://www.st.com/stonline/products/literature/ds/2144/l7805ab.pdf
footprint TO-263 (D2-PAK/TO-263-AB; 3 Leads (1 Cropped); Body 15.9 (inc. leads) x 10.4 mm (LxW max))
footprint TO-220AB_stabilizer (TO, Thru-Hole, Vertical, Heatsink Mounted; 3 In-Line Leads; Pitch 2.54 mm)
pins: 1 IN (power), 3 OUT (power), 4 GND (power)

## LD1117ADT33TR
designator IC?
footprint DPAK228P972X240-3L (D-PAK, 3-Pads, Body 6,20x6,66mm (max), IPC High Density); pin to pad 2>4
pins: 1 GND, 2 VOUT, 3 VIN

## LD1117ADT33TR_1
designator U?
1A, Low Drop Positive Voltage Regulator, 3.3V, 3-Pin DPAK, Tape and Reel; PartNumber: LD1117ADT33TR; DatasheetVersion: Dec-2011; PackageVersion: 2011; PackageReference: TO-252; PackageDescription: 3-Pin Transistor Outline Package 2.28 mm Pitch, 9.7 mm Lead Span (DPAK); ComponentLink1Description: Manufacturer URL; ComponentLink1URL: http://www.st.com; ComponentLink2Description: Datasheet; ComponentLink2URL: http://www.st.com/internet/com/TECHNICAL_RESOURCES/TECHNICAL_LITERATURE/DATASHEET/CD00002116.pdf
footprint TO-252_N (D-PAK, 4-Leads, Body 6.1x6.5mm, Pitch 2.28mm, Lead Span 9.7mm, IPC Medium Density)
footprint TO-252_L (D-PAK, 4-Leads, Body 6.1x6.5mm, Pitch 2.28mm, Lead Span 9.7mm, IPC High Density)
footprint TO-252_M (D-PAK, 4-Leads, Body 6.1x6.5mm, Pitch 2.28mm, Lead Span 9.7mm, IPC Low Density)
pins: 1 GND (power), 3 VIN (power), 4 VOUT (power)

## LD1117AS33TR
designator U?
1A, Low Drop Positive Voltage Regulator, 3.3V, 4-Pin SOT-223, Tape and Reel; PartNumber: LD1117AS33TR; DatasheetVersion: Dec-2011; PackageVersion: 2010; PackageReference: SOT-223; PackageDescription: 4-Pin SOT-223 Package, 6.5 x 3.5 mm Body, 2.3 mm Pitch, 7 mm Lead Span; ComponentLink1Description: Manufacturer URL; ComponentLink1URL: http://www.st.com; ComponentLink2Description: Datasheet; ComponentLink2URL: http://www.st.com/internet/com/TECHNICAL_RESOURCES/TECHNICAL_LITERATURE/DATASHEET/CD00002116.pdf
footprint SOT-223_N (SOT223, 4-Leads, Body 6.5x3.5mm, Pitch 2.3mm, Lead Span 7mm, IPC Medium Density)
footprint SOT-223_L (SOT223, 4-Leads, Body 6.5x3.5mm, Pitch 2.3mm, Lead Span 7mm, IPC High Density)
footprint SOT-223_M (SOT223, 4-Leads, Body 6.5x3.5mm, Pitch 2.3mm, Lead Span 7mm, IPC Low Density)
pins: 1 GND (power), 2 VOUT (power), 3 VIN (power), 4 VOUT (power)

## LD1117AV33
designator U?
1A, Low Drop Positive Voltage Regulator, 3.3V, 3-Pin TO-220; PartNumber: LD1117AV33; DatasheetVersion: Dec-2011; PackageVersion: ver3.0; PackageReference: TO220; PackageDescription: TO, Thru-Hole, Vertical, Heatsink Mounted; 3 In-Line Leads; Pitch 2.54 mm; ComponentLink1Description: Manufacturer URL; ComponentLink1URL: http://www.st.com; ComponentLink2Description: Datasheet; ComponentLink2URL: http://www.st.com/internet/com/TECHNICAL_RESOURCES/TECHNICAL_LITERATURE/DATASHEET/CD00002116.pdf; ComponentLink3Description: Package Specification; ComponentLink3URL: http://www.st.com/internet/com/TECHNICAL_RESOURCES/TECHNICAL_LITERATURE/PACKAGE_INFORMATION/CD00004649.pdf
footprint TO220 (TO, Thru-Hole, Vertical, Heatsink Mounted; 3 In-Line Leads; Pitch 2.54 mm)
pins: 1 GND (power), 2 VOUT (power), 3 VIN (power)

## LD39050PU33R
designator U?
500 mA Low Quiescent Current Low Noise Voltage Regulator, 3.3V, 6-Pin VDFDPN, Tape and Reel; PartNumber: LD39050PU33R; DatasheetVersion: Mar-2009; PackageVersion: 2008; PackageReference: DFN6D; PackageDescription: 6-Pin Plastic, Dual LLP, 3 x 3 mm Body, 0.95 mm Pitch, Exposed Pad; ComponentLink1Description: Manufacturer URL; ComponentLink1URL: http://www.st.com; ComponentLink2Description: Datasheet; ComponentLink2URL: http://www.st.com/internet/com/TECHNICAL_RESOURCES/TECHNICAL_LITERATURE/DATASHEET/CD00227527.pdf
footprint DFN6D_N (SON, 6-Leads, Body 3x3mm, Pitch 0.95mm, Thermal Pad 2.4x1.65mm, IPC Medium Density)
footprint DFN6D_L (SON, 6-Leads, Body 3x3mm, Pitch 0.95mm, Thermal Pad 2.4x1.65mm, IPC High Density)
footprint DFN6D_M (SON, 6-Leads, Body 3x3mm, Pitch 0.95mm, Thermal Pad 2.4x1.65mm, IPC Low Density)
pins: 1 EN (in), 2 GND (power), 3 PG (oc), 4 VOUT (power), 5 NC, 6 VIN (power), 7 EP (power)

## LED
designator LED?, comment RED
Light-emitting diode; COLOR: RED
footprint LED_THT_RED
footprint LED_THT_BLUE
footprint LED_THT_GREEN
footprint LED_THT_YELLOW
footprint LED_THT_3mm
footprint 0603_led_blue
footprint 0603_led_green
footprint 0603_led_orange
footprint 0603_led_red
footprint 0603_led_yellow
footprint 0805_led_blue
footprint 0805_led_green
footprint 0805_led_orange
footprint 0805_led_red
footprint 0805_led_yellow
pins: 1 A, 2 K

## LIS35DE
designator U?
footprint LGA14
pins: 1 VDD_IO, 2 GND, 3 Reserved/VDD, 4 GND, 5 GND, 6 VDD, 7 CS (in), 8 INT 1 (out), 9 INT 2 (out), 10 GND, 11 Reserved/GND, 12 SDO (out), 13 SDA/SDI/SDO (in), 14 SCL/SPC (in)

## LM339AD
designator U?, comment LM339
Quad Single-Supply Comparator; Published: 17-Jul-2002; LatestRevisionDate: 13-Apr-2006; LatestRevisionNote: IPC-7351 Footprint Added.; DatasheetVersion: 1988; PackageVersion: 1991; PackageReference: 751A-02; Publisher: Altium Limited; PackageDescription: 14-Pin Small Outline Integrated Circuit 1.27 mm Pitch; Code_IPC: SOIC127P600-14; ComponentLink1Description: Manufacturer Link; ComponentLink1URL: http://www.onsemi.com/site/products/taxonomy/0,4438,133,00.html
footprint SOIC14 (SOIC, 14-Leads, Body 8.6x3.9mm, Pitch 1.27mm, IPC Medium Density)
pins on every part: 3 V+ (power), 12 GND (power)
part A pins: 2 OUT (oc), 4 IN- (in), 5 IN+ (in)
part B pins: 1 OUT (oc), 6 IN- (in), 7 IN+ (in)
part C pins: 8 IN- (in), 9 IN+ (in), 14 OUT (oc)
part D pins: 10 IN- (in), 11 IN+ (in), 13 OUT (oc)

## LM358AD
designator U?
Low-Power Dual Operational Amplifier; Published: 24-Aug-2001; LatestRevisionDate: 13-Apr-2006; LatestRevisionNote: IPC-7351 Footprint Added.; DatasheetVersion: Jun-1998; PackageVersion: Dec-2002; PackageReference: SO8; Publisher: Altium Limited; PackageDescription: 8-Pin Small Outline Integrated Circuit 1.27 mm Pitch; Code_JEDEC: MS-012-AA; Code_IPC: SOIC127P600-8; ComponentLink1Description: Manufacturer Link; ComponentLink1URL: http://www.st.com/; ComponentLink2Description: Datasheet; ComponentLink2URL: http://www.st.com/stonline/products/literature/ds/2163/lm358.pdf
footprint DIP8
footprint SO-8_N
pins on every part: 4 V- (power), 8 V+ (power)
part A pins: 1 OUT (out), 2 IN- (in), 3 IN+ (in)
part B pins: 5 IN+ (in), 6 IN- (in), 7 OUT (out)
part A text: A
part B text: B

## LM1117DT-3V3
designator U?, comment LM1117
LM1117, 3V3, 800mA LDI
footprint TO252 (D-PAK, 3-Pads, Body 5,8x6,7mm (max), IPC Low Density)
pins: 1 GND, 3 INPUT, 4 Vout

## LM1117MP-3V3
designator U?
800mA Low-Dropout Linear Regulator; PartNumber: LM1117MP-3.3; Manufacturer: National Semiconductor; CompType: LDO IC; PackageTopMarking: XYTT*N05A; PowerWise: N; Published: 4-Dec-2008; DatasheetVersion: Apr-2006; PackageVersion: revB, Apr-2003; PackageReference: MP04A; Publisher: Altium Limited; PackageDescription: Molded SOT-223, 6.50 x 3.56 x 1.6mm Body, 4 Lead, 2.3mm Pitch; RoHS: O; PinCount: 4; DigiKeyPartNumber: LM1117MP-3.3CT-ND; Code_JEDEC: TO-261-AA; Code_IPC: SOT223-4; ComponentLink1Description: LM1117 Datasheet; ComponentLink1URL: http://www.national.com/ds/LM/LM1117.pdf; ComponentLink2Description: LM1117 Web Page; ComponentLink2URL: http://www.national.com/pf/LM/LM1117.html; ComponentLink3Description: MP04A Package Page; ComponentLink3URL: http://www.national.com/packaging/folders/mp04a.html
footprint SOT223
pins: 1 GND (power), 2 OUT (power), 3 IN (power), 4 TAB (power)

## LM1117MP-5V
designator U?
800mA Low-Dropout Linear Regulator; Manufacturer: National Semiconductor; CompType: LDO IC; PackageTopMarking: XYTT*N05A; PowerWise: N; Published: 4-Dec-2008; DatasheetVersion: Apr-2006; PackageVersion: revB, Apr-2003; PackageReference: MP04A; Publisher: Altium Limited; PackageDescription: Molded SOT-223, 6.50 x 3.56 x 1.6mm Body, 4 Lead, 2.3mm Pitch; PartNumber: LM1117MP-5; RoHS: O; PinCount: 4; DigiKeyPartNumber: LM1117MP-3.3CT-ND; Code_JEDEC: TO-261-AA; Code_IPC: SOT223-4; ComponentLink1Description: LM1117 Datasheet; ComponentLink1URL: http://www.national.com/ds/LM/LM1117.pdf; ComponentLink2Description: LM1117 Web Page; ComponentLink2URL: http://www.national.com/pf/LM/LM1117.html; ComponentLink3Description: MP04A Package Page; ComponentLink3URL: http://www.national.com/packaging/folders/mp04a.html
footprint SOT223
pins: 1 GND (power), 2 OUT (power), 3 IN (power), 4 TAB (power)

## LM1881
designator IC?
footprint SOIC127P600X175-8N (SOIC, 8-Leads, Body 4,90x3,90mm, Pitch 1,27mm, IPC Medium Density)
pins: 1 CSOUT, 2 CVIN, 3 VSOUT, 4 GND, 5 BPOUT, 6 RSET, 7 OEOUT, 8 VCC

## LM2596S-3V3
designator U?
SIMPLE SWITCHER Power Converter 150 KHz 3A Step-Down Voltage Regulator; PartNumber: LM2596S-3.3; Manufacturer: National Semiconductor; PackageTopMarking: NSUZXYTT*LM2596S*-3.3 P+; PowerWise: N; FirstPublished: 4-Dec-2008; DatasheetVersion: May-2002; PackageVersion: revD, Apr-2005; PackageReference: TS5B; Publisher: Altium Limited; PackageDescription: TO-263, Molded, .400 x .390 x .180in, 5 Lead, .067in Pitch, Surface Mount; CompType: Switcher; RoHS: O; PinCount: 5; DigiKeyPartNumber: LM2596S-3.3-ND; Code_JEDEC: MO-169-AB; ComponentLink1Description: LM2596 Datasheet; ComponentLink1URL: http://www.national.com/ds/LM/LM2596.pdf; ComponentLink2Description: LM2596 Web Page; ComponentLink2URL: http://www.national.com/pf/LM/LM2596.html; ComponentLink3Description: TS5B Package Page; ComponentLink3URL: http://www.national.com/packaging/folders/ts5b.html
footprint TS5B_N (D2-PAK, 6-Leads, Body 8.6x10.2mm, Pitch 1.7mm, Lead Span 14.1mm, IPC Medium Density)
pins: 1 VIN (power), 2 OUT (power), 3 GND (power), 4 FB (in), 5 ~{ON}/OFF (in), 6 TAB (power)

## LM7771T
designator U*, comment LM1117T
footprint TO-220AB (TO, Thru-Hole, Vertical, Heatsink Mounted; 3 In-Line Leads; Pitch 2.54 mm)
pins: 1 IN (power), 2 OUT (power), 3 GND (power)

## LMZ21701
designator U?
footprint 8uSIP
pins: 1 SS, 2 FB, 3 PG, 4 VOUT, 5 GND, 6 VOS, 7 EN, 8 VIN, 9 Pad

## LT3580
designator U?
Boost/Inverting DC/DC   Converter with 2A Switch,   Soft-Start, and Synchronization
footprint MSOP-MS8_N_Exposed_PAD (TSOP, 8-Leads, Body 3x3mm, Pitch 0.65mm, IPC Medium Density)
pins: 1 FB, 2 VC, 3 Vin, 4 SW, 5 SHDN, 6 RT, 7 SS, 8 SYNC, 9 GND

## LTC3112
designator U?
15V, 2.5A Synchronous  Buck-Boost DC/DC   Converter
footprint TSSOP20-exposed_pad (20-LEAD PLASTIC TSSOP with exposed GND 21 pad)
pins: 1 GND, 2 COMP, 3 FB, 4 OVP, 5 Vin, 6 Vin, 7 Run, 8 Iout, 9 Vout, 10 GND, 11 GND, 12 SW2, 13 SW2, 14 BST2, 15 SW1, 16 SW1, 17 BST1, 18 Vcc, 19 PWM/SYNC, 20 GND, 21 GND

## LTC4002
designator U?
Standalone Li-Ion  Switch Mode Battery Charger
footprint SO-8_N
pins: 1 COMP, 2 Vcc, 3 GATE, 4 GND, 5 CHRG, 6 BAT, 7 SENSE, 8 NTC

## MAG3110
designator U?, comment MAG3310
Xtrinsic MAG3110 Three-Axis, Digital  Magnetometer
footprint DFN10 (DFN 10-pin (2 x 2 x 0.85 mm))
pins: 1 Cap-A, 2 VDD (power), 3 NC, 4 Cap-R, 5 GND (power), 6 SDA (io), 7 SCL (in), 8 VDDIO (power), 9 INT1 (out), 10 GND (power)

## MC34931
designator *
footprint SOICW-32 (SOIC, 32-Leads, Body 11,00x7,50mm, Pitch 1,27mm, Thermal Pad 5,90x4,80mm, IPC Medium Density)
pins: 1 AGND, 2 D1, 3 FB, 5 EN/D2, 7 VPWR, 8 VPWR, 10 OUT1, 11 OUT1, 15 PGND, 16 PGND, 17 PGND, 18 PGND, 22 OUT2, 23 OUT2, 25 VPWR, 26 VPWR, 28 CCP, 29 IN2, 31 IN1, 32 SF

## MCP1725-33
designator U?, comment MCP1725-3V3
500 mA, Low Voltage, Low Quiescent Current LDO Regulator
footprint SOIC8
pins: 1 Vin (power), 2 Vin (power), 3 ~{SHDN} (power), 4 GND (power), 5 PWRGD (power), 6 Cdelay (power), 7 Sense (power), 8 Vout (power)

## MCP6542
designator U?, comment MCP6542 dual comparator
Push-Pull Output Sub-Microamp Comparators
footprint SO-8_N
part A pins: 1 OUTA (out), 2 VINA- (in), 3 VINA+ (in), 4 VSS (power), 8 VDD (power)
part B pins: 5 VINA+ (in), 6 VINA- (in), 7 OUTA (out)

## MCP6544-I/SL
designator U?
Push-Pull Output Sub-Microamp Comparator, 14-Pin SOIC, Industrial Temperature; FirstPublished: 29-Jan-2009; DatasheetVersion: revF, Sep-2007; PackageVersion: revBB, Aug-2009; PackageReference: SOIC-SL14; Publisher: Altium Limited; PackageDescription: 14-Lead Plastic Small Outline (SL) - Narrow, 3.90mm Body [SOIC]; Supplier 1: Digi-Key; Supplier Part Number 1: MCP6544-I/SL-ND; Supplier 2: Newark; Supplier Part Number 2: 92C4258; Code_JEDEC: MS-012-AB; Code_IPC: SOIC127P600-14; ComponentLink1Description: Datasheet; ComponentLink1URL: http://ww1.microchip.com/downloads/en/DeviceDoc/21696f.pdf; ComponentLink2Description: Packaging Specification; ComponentLink2URL: http://www.microchip.com/stellent/groups/techpub_sg/documents/packagingspec/en012702.pdf; ComponentLink3Description: Microchip.com Home; ComponentLink3URL: http://www.microchip.com/
footprint SOIC14 (SOIC, 14-Leads, Body 8.6x3.9mm, Pitch 1.27mm, IPC Medium Density)
pins on every part: 4 VDD (power), 11 VSS (power)
part A pins: 1 OUTA (out), 2 VINA- (in), 3 VINA+ (in)
part B pins: 5 VINB+ (in), 6 VINB- (in), 7 OUTB (out)
part C pins: 8 OUTC (out), 9 VINC- (in), 10 VINC+ (in)
part D pins: 12 VIND+ (in), 13 VIND- (in), 14 OUTD (out)

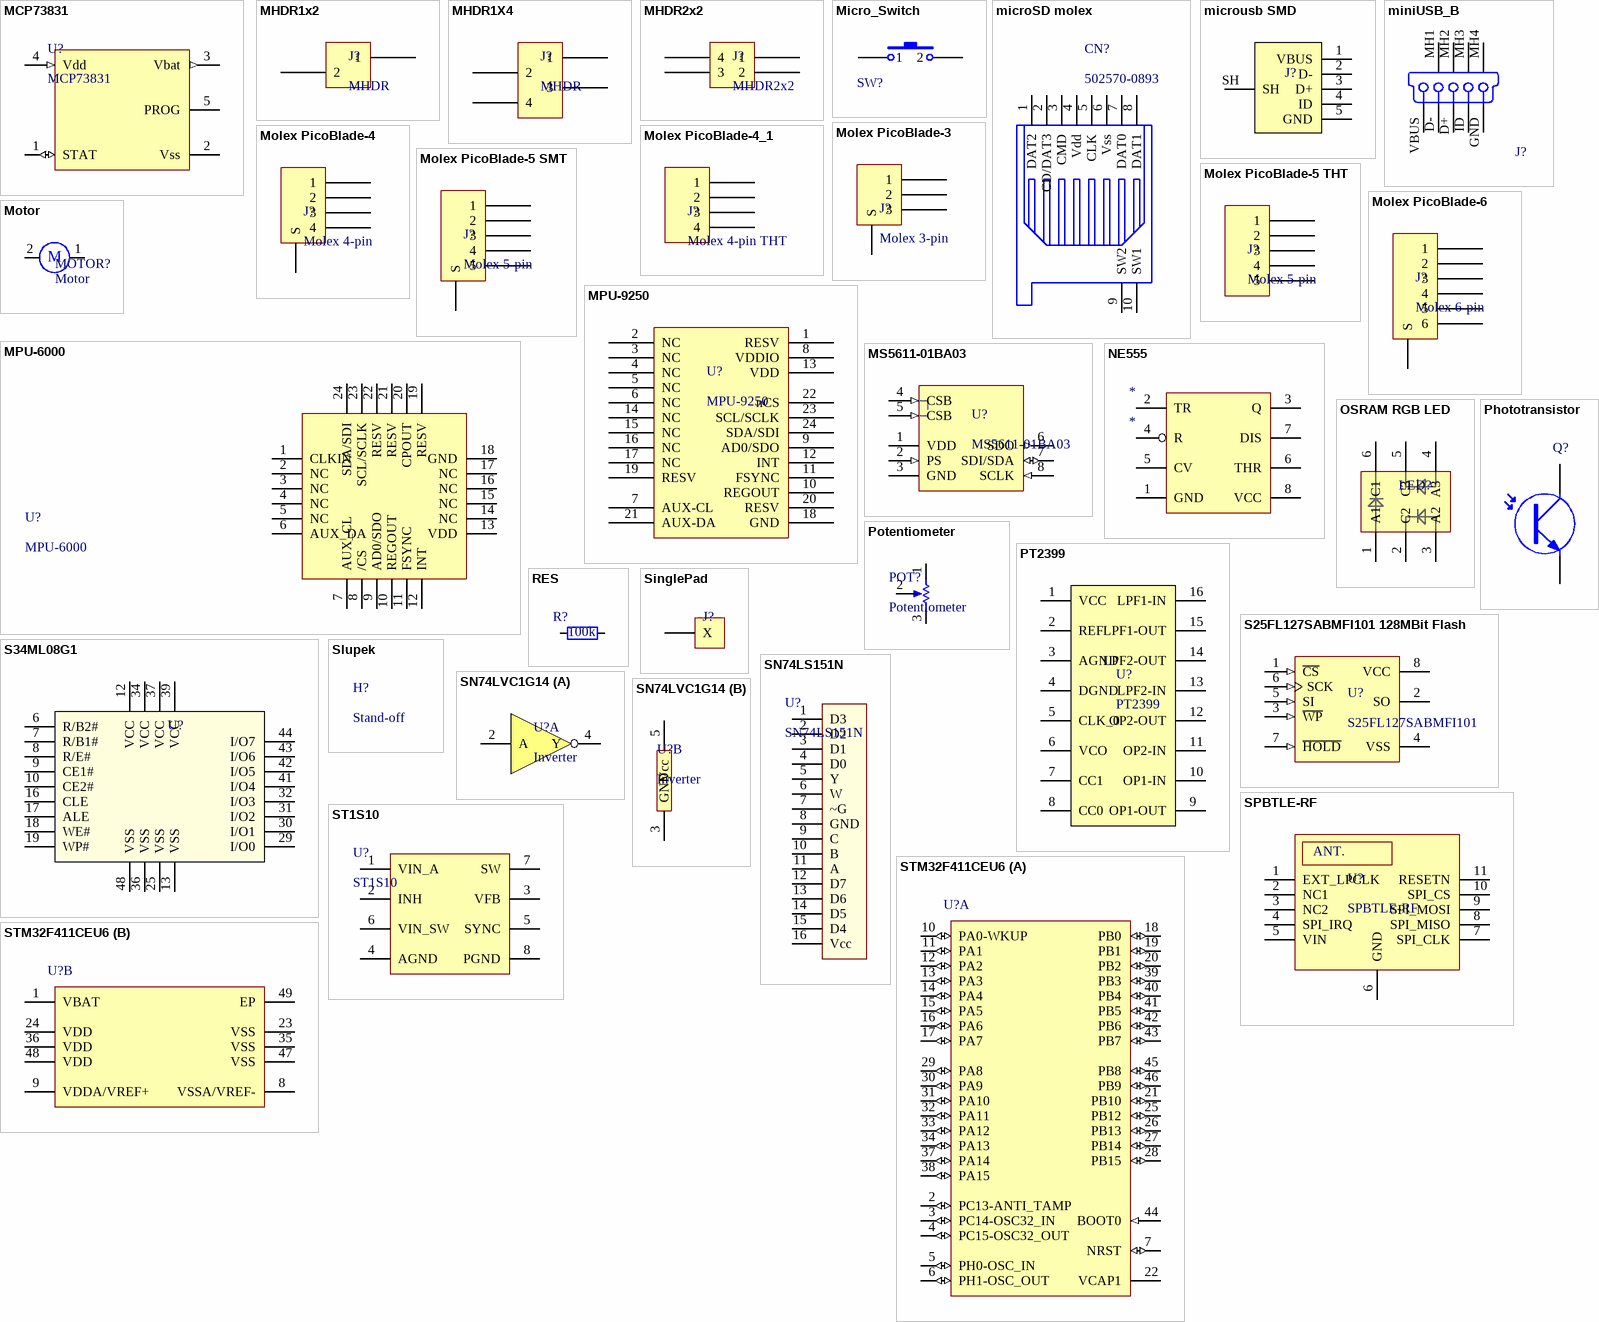
[diagram p3: symbols MCP73831 to STM32F411CEU6]

## MCP73831
designator U?
Miniature Single-Cell, Fully Integrated Li-Ion,  Li-Polymer Charge Management Controllers
footprint SOT23-5_N (SOT23, 5-Leads, Body 2.9x1.6mm, Pitch 0.95mm, Lead Span 2.8mm, IPC Medium Density)
pins: 1 STAT (io), 2 Vss (power), 3 Vbat (out), 4 Vdd (in), 5 PROG

## MHDR1x2
designator J?, comment MHDR
footprint MHDR-1x2 SMD
pins: 1, 2

## MHDR1X4
designator J?, comment MHDR
footprint MHDR-1X4
pins: 1, 2, 3, 4

## MHDR2x2
designator J?
footprint MHDR-2X2 SMD
pins: 1, 2, 3, 4

## Micro_Switch
designator SW?  (value not drawn)
Switch; Published: 24-Mar-1999; LatestRevisionDate: 17-Jul-2002; LatestRevisionNote: Re-released for DXP Platform.; PackageReference: SPST-2; Publisher: Altium Limited
footprint Micro_Switch (Micro Switch with 2 leads used)
footprint Tact 34N-F
footprint OMRON B3U-1000PM (Tactile Switch OMRON B3U-1000PM)
footprint OMRON B3U-3000PM (Tactile  OMRON B3U-3000PM)
pins: 1, 2

## microSD molex
designator CN?, comment 502570-0893
Molex 502570-0893
footprint microSD molex
pins: 1 DAT2, 2 CD/DAT3, 3 CMD, 4 Vdd, 5 CLK, 6 Vss, 7 DAT0, 8 DAT1, 9 SW2, 10 SW1

## microusb SMD
designator J?  (value not drawn)
footprint usb_micro_botland (MICRO USB)
footprint USB_Micro_B (MOLEX)
pins: 1 VBUS, 2 D-, 3 D+, 4 ID, 5 GND, SH

## miniUSB_B
designator J?
USB On-The-Go (OTG) Mini-B Receptacle, Right Angle, SMT, 0.80mm (.031") Pitch, Solder Tabs with Back Cover, Recessed Type; PCB_Layout: Complies with Manufacturer's Recommendation.; Published: 21-Sep-2007; DatasheetVersion: revA, May-2004; PackageVersion: May-2004; PackageReference: 481900001; Publisher: Altium Limited; PackageDescription: USB Mini-B, Sinking Type, SM; 5 Position; Right Angle, Body 11.45 x 11.8 x 3.9 mm (LxWxH); ComponentLink1Description: Manufacturer Link; ComponentLink1URL: http://www.molex.com/; ComponentLink2Description: Datasheet; ComponentLink2URL: http://www.molex.com/cmc_upload/0/000/895/958/SD-48190-001RevA.pdf
signal-integrity model USB Mini-B
footprint miniUSB_B_H (Connector; USB Mini-B, Sinking Type, SM; 5 Position; Right Angle)
pins: D+ "USB Data + [Green]", D- "USB Data - [White]", GND "Ground [Black]", ID "Not Connected (or joined to pin 5 via resistor)", MH1 Tab "Shell", MH2 Tab "Shell", MH3 Tab "Shell", MH4 Tab "Shell", VBUS "USB Vcc [Red]"

## Molex PicoBlade-3
designator J?, comment Molex 3-pin
footprint 1.25 PicoBlade-3 SMD RA
pins: 0 S, 1, 2, 3

## Molex PicoBlade-4
designator J?, comment Molex 4-pin
footprint 1.25 PicoBlade-4 SMD RA
pins: 0 S, 1, 2, 3, 4

## Molex PicoBlade-4_1
designator J?, comment Molex 4-pin THT
footprint 1.25 PicoBlade-4 THT ANGL (Molex 1.25mm Pitch PicoBlade™ Wire-to-Board Header, Horizontal, with Friction Lock, 4 Circuits)
pins: 1, 2, 3, 4

## Molex PicoBlade-5 SMT
designator J?, comment Molex 5-pin
footprint 1.25 PicoBlade-5 SMD VER (Molex 1.25mm Pitch PicoBlade™ Header, Surface Mount, Right Angle, 6 Circuits)
footprint 1.25 PicoBlade-5 SMD HOR (Molex 1.25mm Pitch PicoBlade™ Header, Surface Mount, Right Angle, 6 Circuits)
pins: 0 S, 1, 2, 3, 4, 5

## Molex PicoBlade-5 THT
designator J?, comment Molex 5-pin
footprint 1.25 PicoBlade-5 THT VER (Molex 1.25mm Pitch PicoBlade™ Wire-to-Board Header, Vertical, with Friction Lock, 5 Circuits)
pins: 1, 2, 3, 4, 5

## Molex PicoBlade-6
designator J?, comment Molex 6-pin
footprint 1.25 PicoBlade-6 SMD RA (Molex 1.25mm Pitch PicoBlade™ Header, Surface Mount, Right Angle, 6 Circuits)
pins: 0 S, 1, 2, 3, 4, 5, 6

## Motor
designator MOTOR?
Motor, General Kind; Published: 24-Mar-1999; LatestRevisionDate: 17-Jul-2002; LatestRevisionNote: Re-released for DXP Platform.; PackageReference: RB5-10.5; Publisher: Altium Limited
footprint HDR1X2 (Connector; Header; 2 Position)
pins: 1, 2
text: M

## MPU-6000
designator U?
InvenSense MPU-6000 6-DOF
footprint QFN24 (QFN, 24-Leads, Body 4,00x4,00mm, Pitch 0,50mm, Thermal Pad 2,70x2,60mm, IPC Medium Density)
pins: 1 CLKIN, 2 NC, 3 NC, 4 NC, 5 NC, 6 AUX_DA, 7 AUX_CL, 8 /CS, 9 AD0/SDO, 10 REGOUT, 11 FSYNC, 12 INT, 13 VDD, 14 NC, 15 NC, 16 NC, 17 NC, 18 GND, 19 RESV, 20 CPOUT, 21 RESV, 22 RESV, 23 SCL/SCLK, 24 SDA/SDI

## MPU-9250
designator U?
InvenSense MPU-9250 9-DOF
footprint QFN40P300X300X105_HS-25N (QFN, 24-Leads, Body 3,00x3,00mm, Pitch 0,40mm, Thermal Pad 1,54x1,70mm, IPC Medium Density)
pins: 1 RESV, 2 NC, 3 NC, 4 NC, 5 NC, 6 NC, 7 AUX-CL, 8 VDDIO, 9 AD0/SDO, 10 REGOUT, 11 FSYNC, 12 INT, 13 VDD, 14 NC, 15 NC, 16 NC, 17 NC, 18 GND, 19 RESV, 20 RESV, 21 AUX-DA, 22 nCS, 23 SCL/SCLK, 24 SDA/SDI

## MS5611-01BA03
designator U?
footprint QFN0P300X500X100-8L (QFN, 8-Leads, Body 3,00x5,00mm, Pitch 0,00mm/1,25mm, IPC High Density)
pins: 1 VDD (power), 2 PS (in), 3 GND (power), 4 CSB (in), 5 CSB (in), 6 SDO (out), 7 SDI/SDA (io), 8 SCLK (in)

## NE555
designator *
footprint DIP8
pins: 1 GND (power), 2 TR, 3 Q (oc), 4 R, 5 CV, 6 THR, 7 DIS, 8 VCC (power)

## OSRAM RGB LED
designator LED?  (value not drawn)
footprint PLCC-6 (RGB LED)
pins: 1 A1, 2 C2, 3 A2, 4 A3, 5 C3, 6 C1

## Phototransistor
designator Q?  (value not drawn)
Phototransistor
footprint LED_THT (Bended version of LED\Phototransistor)
footprint LED_THT_3mm
pins: 1 E, 2 C

## Potentiometer
designator POT?
footprint Pot_3296 (Bochen 3296 Pin2 - Wiper)
footprint POT SMD ACP
footprint RKT6V_SMD (SMD version of STK6V THT element)
footprint RKT6V_THT (RTK6V THT version of THT element)
pins: 1, 2, 3

## PT2399
designator U?
footprint SO16_L (16-Pin Small Outline Integrated Circuit 1.27 mm Pitch, IPC High Density)
pins: 1 VCC, 2 REF, 3 AGND, 4 DGND, 5 CLK_0, 6 VCO, 7 CC1, 8 CC0, 9 OP1-OUT, 10 OP1-IN, 11 OP2-IN, 12 OP2-OUT, 13 LPF2-IN, 14 LPF2-OUT, 15 LPF1-OUT, 16 LPF1-IN

## RES
designator R?, comment 100k
Resistior; Value: 100k
footprint THT_AXIAL (General THT AXIAL element)
footprint R9x2.8 (Resistor, Axial; Body 10.5 x 3.3 mm (LxDia. max), Lead Dia. 0.7 mm (max))
footprint R6.3x2.5 (Resistor, Axial; Body 6.8 x 2.7 mm (LxDia. max), Lead Dia. 0.65 mm (max))
footprint 2010_RES (Chip Resistor; Body 5 x 2.5 mm (LxW typ))
footprint 2512_RES (Chip Resistor; Body 6.4 x 3.2 mm (LxW typ))
footprint RESC0402
footprint RESC0603 (Chip Resistor, 2-Leads, Body 1,57x0,80mm, IPC High Density)
footprint RESC0805
footprint RESC1206
pins: 1, 2
1 alternate drawing of the same symbol

## S25FL127SABMFI101 128MBit Flash
designator U?, comment S25FL127SABMFI101
Flash Memory 128Mb 3V 108Mhz Serial NOR Flash
footprint SOIC-8 L
pins: 1 ~{CS} (in), 2 SO (hiz), 3 ~{WP} (in), 4 VSS (power), 5 SI (in), 6 SCK (in), 7 ~{HOLD} (in), 8 VCC (power)

## S34ML08G1
designator U?  (value not drawn)
footprint TSSOP-48_M 0.5 (TSSOP, 48-Leads, Body 12,00x18,40mm, Pitch 0,50mm, Thermal Pad 0,00x0,00mm, IPC Medium Density)
pins: 6 R/B2#, 7 R/B1#, 8 R/E#, 9 CE1#, 10 CE2#, 12 VCC, 13 VSS, 16 CLE, 17 ALE, 18 WE#, 19 WP#, 25 VSS, 29 I/O0, 30 I/O1, 31 I/O2, 32 I/O3, 34 VCC, 36 VSS, 37 VCC, 39 VCC, 41 I/O4, 42 I/O5, 43 I/O6, 44 I/O7, 48 VSS

## SinglePad
designator J?  (value not drawn)
footprint SinglePad
pins: 1 X

## Slupek
designator H?, comment Stand-off
Stand-off element
footprint Slupek_5 (M3, 5.5mm width)
footprint Slupek_6 (M3, 5.5mm width)
footprint Slupek_8 (M3, 5.5mm width)
footprint Slupek_10 (M3, 5.5mm width)
footprint Slupek_12 (M3, 5.5mm width)
footprint Slupek_14 (M3, 5.5mm width)
footprint Slupek_16 (M3, 5.5mm width)
footprint Slupek_16 (M3, 5.5mm width)
footprint Slupek_18 (M3, 5.5mm width)
footprint Slupek_20 (M3, 5.5mm width)
footprint Slupek_25 (M3, 5.5mm width)
footprint Slupek_30 (M3, 5.5mm width)
footprint Slupek_35 (M3, 5.5mm width)
footprint Slupek_40 (M3, 5.5mm width)
footprint Slupek_45 (M3, 5.5mm width)
footprint Slupek_45 (M3, 5.5mm width)
footprint Slupek_50 (M3, 5.5mm width)
footprint Slupek_55 (M3, 5.5mm width)
footprint Slupek_60 (M3, 5.5mm width)
footprint Slupek_60 (M3, 5.5mm width)
footprint Slupek_70 (M3, 5.5mm width)
footprint Slupek_80 (M3, 5.5mm width)
footprint Slupek_100 (M3, 5.5mm width)

## SN74LS151N
designator U?
Data selector
footprint DIP16
pins: 1 D3, 2 D2, 3 D1, 4 D0, 5 Y, 6 W, 7 ~G, 8 GND, 9 C, 10 B, 11 A, 12 D7, 13 D6, 14 D5, 15 D4, 16 Vcc

## SN74LVC1G14
designator U?, comment Inverter
footprint SOT23-5L 0.95mm (SOT23, 5-Leads, Body 2,90x2,80mm, Pitch 0,95mm, IPC High Density)
part A pins: 2 A, 4 Y
part B pins: 3 GND, 5 Vcc

## SPBTLE-RF
designator U?
BT 4.1
footprint SPBTLE-RF
pins: 1 EXT_LPCLK, 2 NC1, 3 NC2, 4 SPI_IRQ, 5 VIN, 6 GND, 7 SPI_CLK, 8 SPI_MISO, 9 SPI_MOSI, 10 SPI_CS, 11 RESETN
text: ANT.

## ST1S10
designator U?
3 A, 900 kHz, monolithic synchronous  step-down regulator IC
footprint SO-8_N
footprint SO8_power_Pad (PowerSO8)
pins: 1 VIN_A, 2 INH, 3 VFB, 4 AGND (power), 5 SYNC, 6 VIN_SW, 7 SW, 8 PGND (power)

## STM32F411CEU6
designator U?
ARM Cortex-M4 32-bit MCU+FPU, 105 DMIPS, 256 kB Flash, 64 kB Internal RAM, 36 I/Os, 48-pin UFQFPN, -40 to 85 degC, Tray; Manufacturer: STMicroelectronics; PartNumber: STM32F401CCU6; FLASH Size (Prog) (kB): 256; I/Os (High Current): 36; Internal RAM Size (kB): 64; Operating Frequency(F) (Processor speed) (MHz): 84; Supply Voltage(Vcc) max (V): 3.6; Supply Voltage(Vcc) min (V): 1.8; DatasheetVersion: Rev. 1; PackageVersion: Rev. 1, 04/2013; PackageReference: UFQFPN48; PackageDescription: 48-Pin Ultra Thin Fine Pitch Quad Flat No-Lead, 7 x 7 x 0.6 mm Body, 0.5 mm Pitch, Exposed Pad; Supplier 1: Newark; Supplier Part Number 1: 19X6217; Supplier 2: Mouser; Supplier Part Number 2: 511-STM32F401CCU6; Core: ARM Cortex-M4; Packing: Tray; Mounting Technology: Surface Mount; ComponentLink1Description: Manufacturer URL; ComponentLink1URL: http://www.st.com/web/en/home.html; ComponentLink2Description: Datasheet; ComponentLink2URL: http://www.st.com/st-web-ui/static/active/en/resource/technical/document/data_brief/DM00071938.pdf; ComponentLink3Description: Package Specification; ComponentLink3URL: http://www.st.com/st-web-ui/static/active/en/resource/technical/document/data_brief/DM00071938.pdf
footprint UFQFPN48_L (QFN, 48-Leads, Body 7.1x7.1mm, Pitch 0.5mm, Thermal Pad 5.6x5.6mm, IPC High Density)
footprint UFQFPN48_M (QFN, 48-Leads, Body 7.1x7.1mm, Pitch 0.5mm, Thermal Pad 5.6x5.6mm, IPC Low Density)
footprint UFQFPN48_N (QFN, 48-Leads, Body 7.1x7.1mm, Pitch 0.5mm, Thermal Pad 5.6x5.6mm, IPC Medium Density)
part A pins: 2 PC13-ANTI_TAMP (io) "PC13-ANTI_TAMP/TAMP_1", 3 PC14-OSC32_IN (io) "PC14-OSC32_IN/OSC32_IN", 4 PC15-OSC32_OUT (io) "PC15-OSC32_OUT/OSC32_OUT", 5 PH0-OSC_IN (io) "PH0-OSC_IN/OSC_IN", 6 PH1-OSC_OUT (io) "PH1-OSC_OUT/OSC_OUT", 7 NRST (io), 10 PA0-WKUP (io) "PA0-WKUP/USART2_CTS,TIM2_CH1/TIM2_ETR,TIM5_CH1/ADC1_0,WKUP", 11 PA1 (io) "PA1/USART2_RTS,TIM2_CH2,TIM5_CH2/ADC1_1", 12 PA2 (io) "PA2/USART2_TX,TIM2_CH3,TIM5_CH3,TIM9_CH1/ADC1_2", 13 PA3 (io) "PA3/USART2_RX,TIM2_CH4,TIM5_CH4,TIM9_CH2/ADC1_3", 14 PA4 (io) "PA4/SPI1_NSS,SPI3_NSS/I2S3_WS,USART2_CK/ADC1_4", 15 PA5 (io) "PA5/SPI1_SCK,TIM2_CH1/TIM2_ETR/ADC1_5", 16 PA6 (io) "PA6/SPI1_MISO,TIM1_BKIN,TIM3_CH1/ADC1_6", 17 PA7 (io) "PA7/SPI1_MOSI,TIM1_CH1N,TIM3_CH2/ADC1_7", 18 PB0 (io) "PB0/TIM1_CH2N,TIM3_CH3/ADC1_8", 19 PB1 (io) "PB1/TIM1_CH3N,TIM3_CH4/ADC1_9", 20 PB2 (io), 21 PB10 (io) "PB10/SPI2_SCK/I2S2_CK,I2C2_SCL,TIM2_CH3", 22 VCAP1 (power), 25 PB12 (io) "PB12/SPI2_NSS/I2S2_WS,I2C2_SMBAL,TIM1_BKIN", 26 PB13 (io) "PB13/SPI2_SCK/I2S2_CK,TIM1_CH1N", 27 PB14 (io) "PB14/SPI2_MISO,I2S2ext_SD,TIM1_CH2N", 28 PB15 (io) "PB15/SPI2_MOSI/I2S2_SD,TIM1_CH3N,RTC_50Hz", 29 PA8 (io) "PA8/I2C3_SCL,USART1_CK,TIM1_CH1,USB_FS_SOF,MCO_1", 30 PA9 (io) "PA9/I2C3_SMBAL,USART1_TX,TIM1_CH2,USB_FS_VBUS", 31 PA10 (io) "PA10/USART1_RX,TIM1_CH3,USB_FS_ID", 32 PA11 (io) "PA11/USART1_CTS,USART6_TX,TIM1_CH4,USB_FS_DM", 33 PA12 (io) "PA12/USART1_RTS,USART6_RX,TIM1_ETR,USB_FS_DP", 34 PA13 (io) "PA13/JTMS-SWDIO", 37 PA14 (io) "PA14/JTCK-SWCLK", 38 PA15 (io) "PA15/SPI1_NSS,SPI3_NSS/I2S3_WS,TIM2_CH1/TIM2_ETR,JTDI", 39 PB3 (io) "PB3/SPI1_SCK,SPI3_SCK/I2S3_CK,I2C2_SDA,TIM2_CH2,JTDO-SWO", 40 PB4 (io) "PB4/SPI1_MISO,SPI3_MISO,I2S3ext_SD,I2C3_SDA,TIM3_CH1,JTRST", 41 PB5 (io) "PB5/SPI1_MOSI,SPI3_MOSI/I2S3_SD,I2C1_SMBAL,TIM3_CH2", 42 PB6 (io) "PB6/I2C1_SCL,USART1_TX,TIM4_CH1", 43 PB7 (io) "PB7/I2C1_SDA,USART1_RX,TIM4_CH2", 44 BOOT0 (in), 45 PB8 (io) "PB8/I2C1_SCL,TIM4_CH3,TIM10_CH1,SDIO_D4", 46 PB9 (io) "PB9/SPI2_NSS/I2S2_WS,I2C1_SDA,TIM4_CH4,TIM11_CH1,SDIO_D5"
part B pins: 1 VBAT (power), 8 VSSA/VREF- (power), 9 VDDA/VREF+ (power), 23 VSS (power), 24 VDD (power), 35 VSS (power), 36 VDD (power), 47 VSS (power), 48 VDD (power), 49 EP (power)

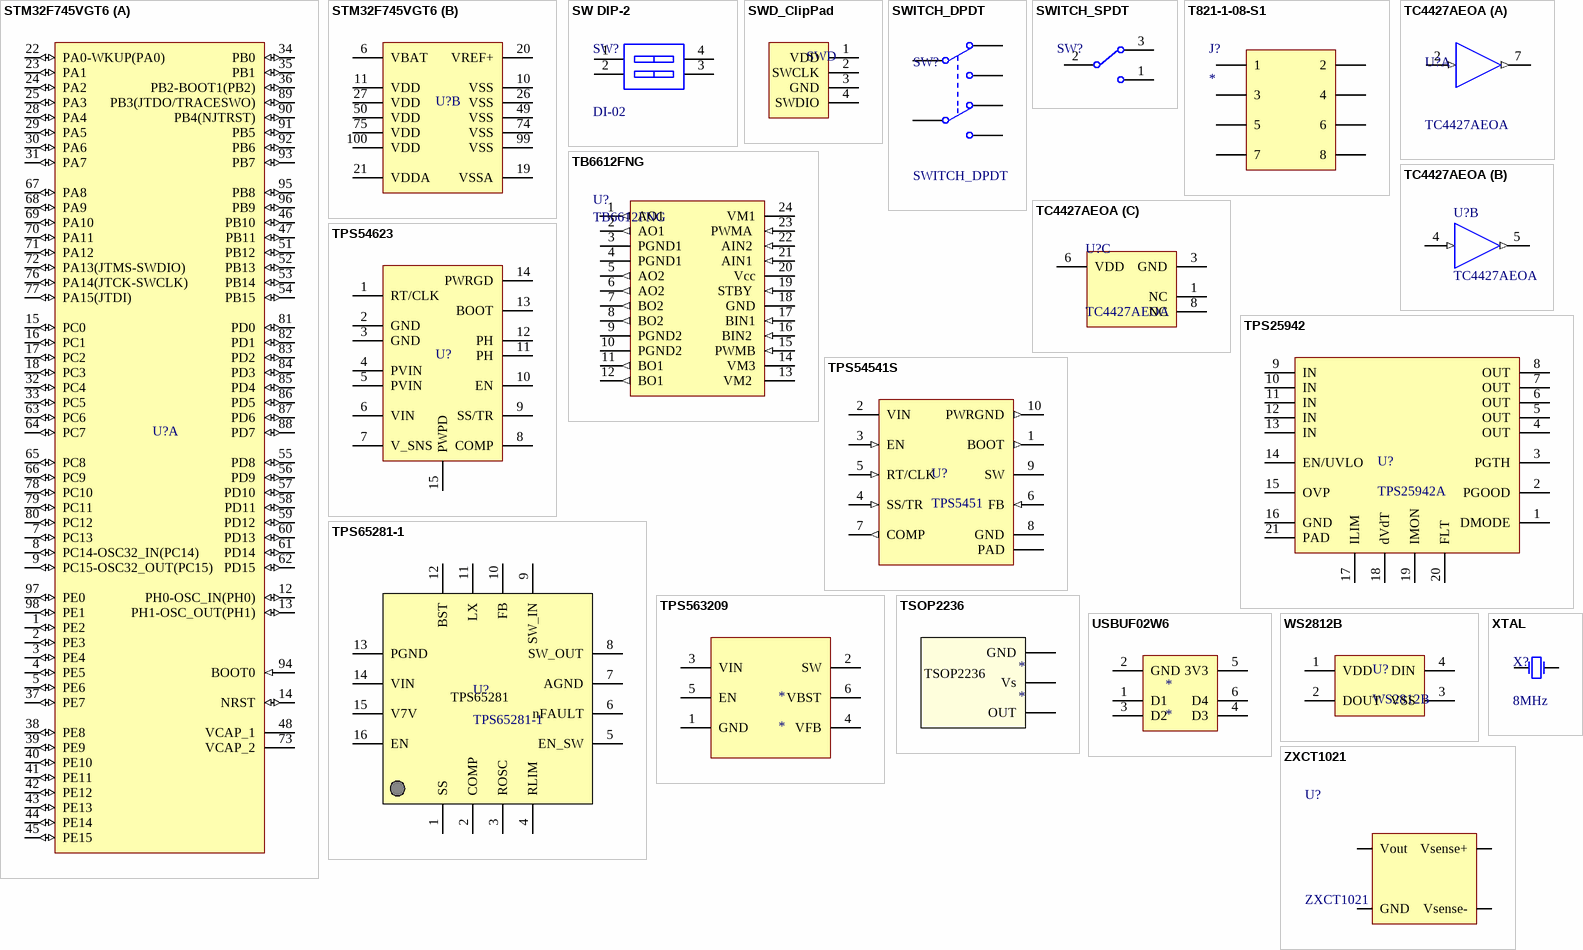
[diagram p4: symbols STM32F745VGT6 to ZXCT1021]